# Altium schematic symbol library switch_push.SchLib: 1 symbol
Pins are listed as number, name and electrical type; pins without a type are passive.

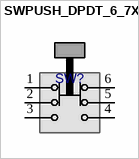
[diagram p0: symbol SWPUSH_DPDT_6_7X7]

## SWPUSH_DPDT_6_7X7
designator SW?, comment swPUSH  (value not drawn)
SWITCH, PUSH, DPDT, THD, ON/OFF; MANF_PART#: TL 2230, KFC-7X7; MANF: e-switch, china; PARAM: 20VAC, 0.4VA; DESC: DESCRIPTION; VALUE: swPUSH; ASSEMBLY: ASSEMBLY; PRICE: 0.6t@Javan
footprint SWPUST_DPDT_S_7X7 (KFC 7x7, 2mm pitch)
pins: 1 T1, 2 COM, 3 T2, 4 T3, 5 T4, 6 T5